# EAGLE library part CY7C65632 (library Revolve)
CY7C65632 edit this description Auto generated by make-symbol-device-package-bsdl.ulp Rev. 44 Source: CY7C65632.txt
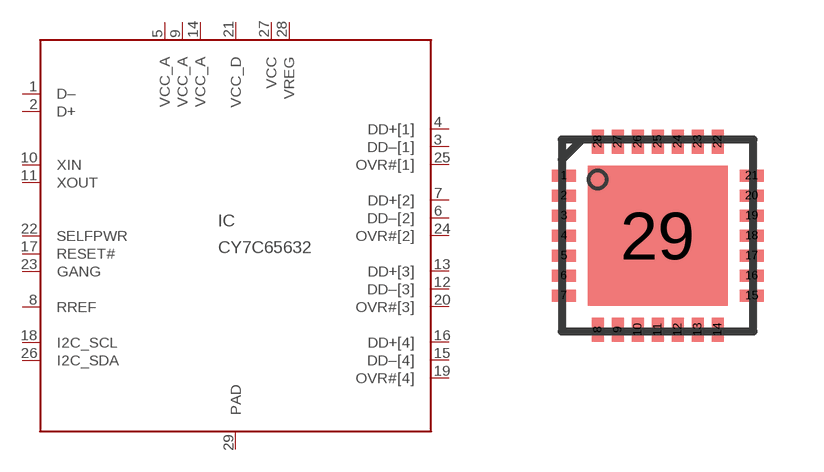
[diagram p6: symbol with the pads of QFN28; footprint QFN28]

Designator prefix IC

## CY7C65632  [QFN28]
1  D–
2  D+
3  DD–[1]
4  DD+[1]
5  VCC_A  pwr
6  DD–[2]
7  DD+[2]
8  RREF
9  VCC_A  pwr
10  XIN  in
11  XOUT  out
12  DD–[3]
13  DD+[3]
14  VCC_A  pwr
15  DD–[4]
16  DD+[4]
17  RESET#  in
18  I2C_SCL  in
19  OVR#[4]  in
20  OVR#[3]  in
21  VCC_D  pwr
22  SELFPWR  in
23  GANG
24  OVR#[2]  in
25  OVR#[1]  in
26  I2C_SDA
27  VCC  pwr
28  VREG  pwr
29  PAD  pwr

## Footprint QFN28 (pad centres in mm)
QFN28 Auto generated by make-symbol-device-package-bsdl.ulp Rev. 44
smd 0.6 x 0.3: 1 -2.35,1.5; 2 -2.35,1; 3 -2.35,0.5; 4 -2.35,0; 5 -2.35,-0.5; 6 -2.35,-1; 7 -2.35,-1.5; 15 2.35,-1.5; 16 2.35,-1; 17 2.35,-0.5; 18 2.35,0; 19 2.35,0.5; 20 2.35,1; 21 2.35,1.5
smd 0.3 x 0.6: 8 -1.5,-2.35; 9 -1,-2.35; 10 -0.5,-2.35; 11 0,-2.35; 12 0.5,-2.35; 13 1,-2.35; 14 1.5,-2.35; 22 1.5,2.35; 23 1,2.35; 24 0.5,2.35; 25 0,2.35; 26 -0.5,2.35; 27 -1,2.35; 28 -1.5,2.35
smd 3.5 x 3.5: 29 0,0